# EAGLE library part 691401700022 (library Wuerth_Elektronik_eiCan_Terminal_Blocks_v2.0)
WR-TBL Serie 401 - 5.0mm Screwless Vertikal Entry - 2 mm2 Wires, 22 Pins
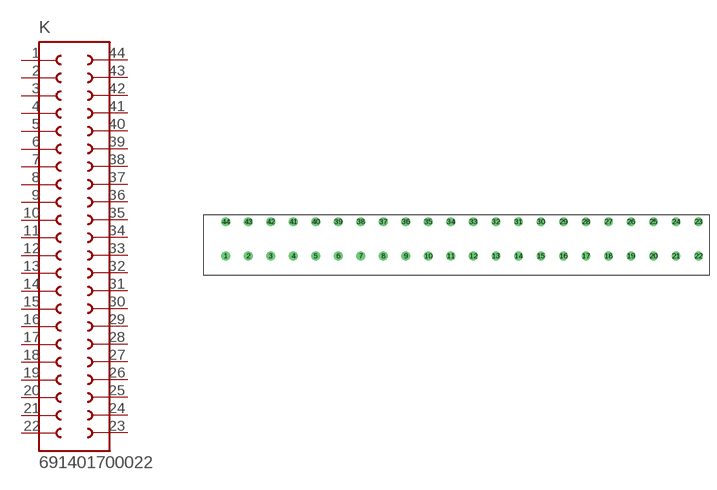
[diagram p278: symbol with the pads of 691401700022; footprint 691401700022]

Designator prefix K

## 691401700022  [691401700022]
1  1  pas
2  2  pas
3  3  pas
4  4  pas
5  5  pas
6  6  pas
7  7  pas
8  8  pas
9  9  pas
10  10  pas
11  11  pas
12  12  pas
13  13  pas
14  14  pas
15  15  pas
16  16  pas
17  17  pas
18  18  pas
19  19  pas
20  20  pas
21  21  pas
22  22  pas
23  23  pas
24  24  pas
25  25  pas
26  26  pas
27  27  pas
28  28  pas
29  29  pas
30  30  pas
31  31  pas
32  32  pas
33  33  pas
34  34  pas
35  35  pas
36  36  pas
37  37  pas
38  38  pas
39  39  pas
40  40  pas
41  41  pas
42  42  pas
43  43  pas
44  44  pas

## Footprint 691401700022 (pad centres in mm)
WR-TBL Serie 401 - 5.0mm Screwless Vertikal Entry - 2 mm2 Wires, 22 Pins
drill 1.3 round: 1 -5,0; 2 0,0; 3 5,0; 4 10,0; 5 15,0; 6 20,0; 7 25,0; 8 30,0; 9 35,0; 10 40,0; 11 45,0; 12 50,0; 13 55,0; 14 60,0; 15 65,0; 16 70,0; 17 75,0; 18 80,0; 19 85,0; 20 90,0; 21 95,0; 22 100,0; 23 100,7.62; 24 95,7.62; 25 90,7.62; 26 85,7.62; 27 80,7.62; 28 75,7.62; 29 70,7.62; 30 65,7.62; 31 60,7.62; 32 55,7.62; 33 50,7.62; 34 45,7.62; 35 40,7.62; 36 35,7.62; 37 30,7.62; 38 25,7.62; 39 20,7.62; 40 15,7.62; 41 10,7.62; 42 5,7.62; 43 0,7.62; 44 -5,7.62